# EAGLE library part 679308124022 (library Wuerth_Elektronik_eiCan_Wire_to_Board_Connectors v1.2)
WR-WTB 1.50mm SMT Male Vertical Shrouded Header, 8 Pins
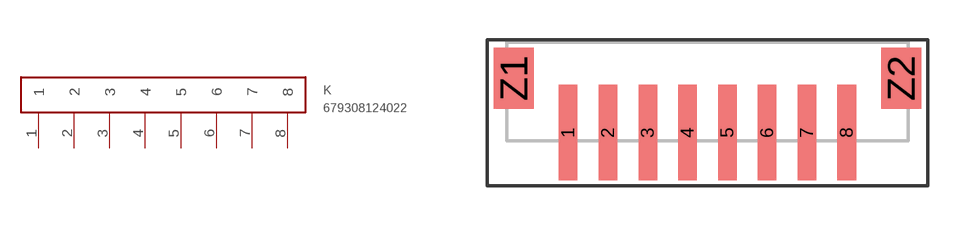
[diagram p46: symbol with the pads of 679308124022; footprint 679308124022]

Designator prefix K

## 679308124022  [679308124022]
1  1
2  2
3  3
4  4
5  5
6  6
7  7
8  8

## Footprint 679308124022 (pad centres in mm)
WR-WTB 1.50mm SMT Male Vertical Shrouded Header, 8 Pins
smd 0.7 x 3.6: 1 -0.75,0; 2 0.75,0; 3 2.25,0; 4 3.75,0; 5 5.25,0; 6 6.75,0; 7 8.25,0; 8 9.75,0
smd 1.5 x 2.3: Z1 -2.8,2.05; Z2 11.8,2.05